# EAGLE library part ESP32-DEVKITC-32UE (library ESP32-DEVKITC-32UE)
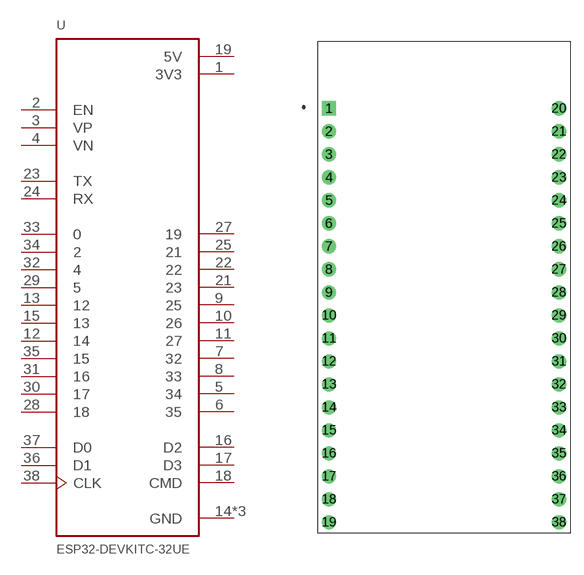
[diagram p0: symbol with the pads of ESPRESSIF_ESP32-DEVKITC-32UE; footprint ESPRESSIF_ESP32-DEVKITC-32UE]

Designator prefix U

## ESP32-DEVKITC-32UE (MANUFACTURER: Espressif; MAXIMUM_PACKAGE_HEIGHT: N/A; PARTREV: V4; SNAPEDA_PN: ESP32-DEVKITC-32UE; STANDARD: Manufacturer Recommendations)  [ESPRESSIF_ESP32-DEVKITC-32UE]
1  3V3  pwr
2  EN  in
3  VP  in
4  VN  in
5  34
6  35
7  32
8  33
9  25
10  26
11  27
12  14
13  12
14  GND  pwr
15  13
16  D2
17  D3
18  CMD
19  5V  pwr
20  GND  pwr
21  23
22  22
23  TX
24  RX
25  21
26  GND  pwr
27  19
28  18
29  5
30  17
31  16
32  4
33  0
34  2
35  15
36  D1
37  D0
38  CLK

## Footprint ESPRESSIF_ESP32-DEVKITC-32UE (pad centres in mm)
drill 1.04 square: 1 -12.7,22.86
drill 1.04: 2 -12.7,20.32; 3 -12.7,17.78; 4 -12.7,15.24; 5 -12.7,12.7; 6 -12.7,10.16; 7 -12.7,7.62; 8 -12.7,5.08; 9 -12.7,2.54; 10 -12.7,0; 11 -12.7,-2.54; 12 -12.7,-5.08; 13 -12.7,-7.62; 14 -12.7,-10.16; 15 -12.7,-12.7; 16 -12.7,-15.24; 17 -12.7,-17.78; 18 -12.7,-20.32; 19 -12.7,-22.86; 20 12.7,22.86; 21 12.7,20.32; 22 12.7,17.78; 23 12.7,15.24; 24 12.7,12.7; 25 12.7,10.16; 26 12.7,7.62; 27 12.7,5.08; 28 12.7,2.54; 29 12.7,0; 30 12.7,-2.54; 31 12.7,-5.08; 32 12.7,-7.62; 33 12.7,-10.16; 34 12.7,-12.7; 35 12.7,-15.24; 36 12.7,-17.78; 37 12.7,-20.32; 38 12.7,-22.86